# Altium integrated library Analog Devices Data Converters Digital-to-Analog Converters.IntLib: 2231 symbols (part 100 of 181)
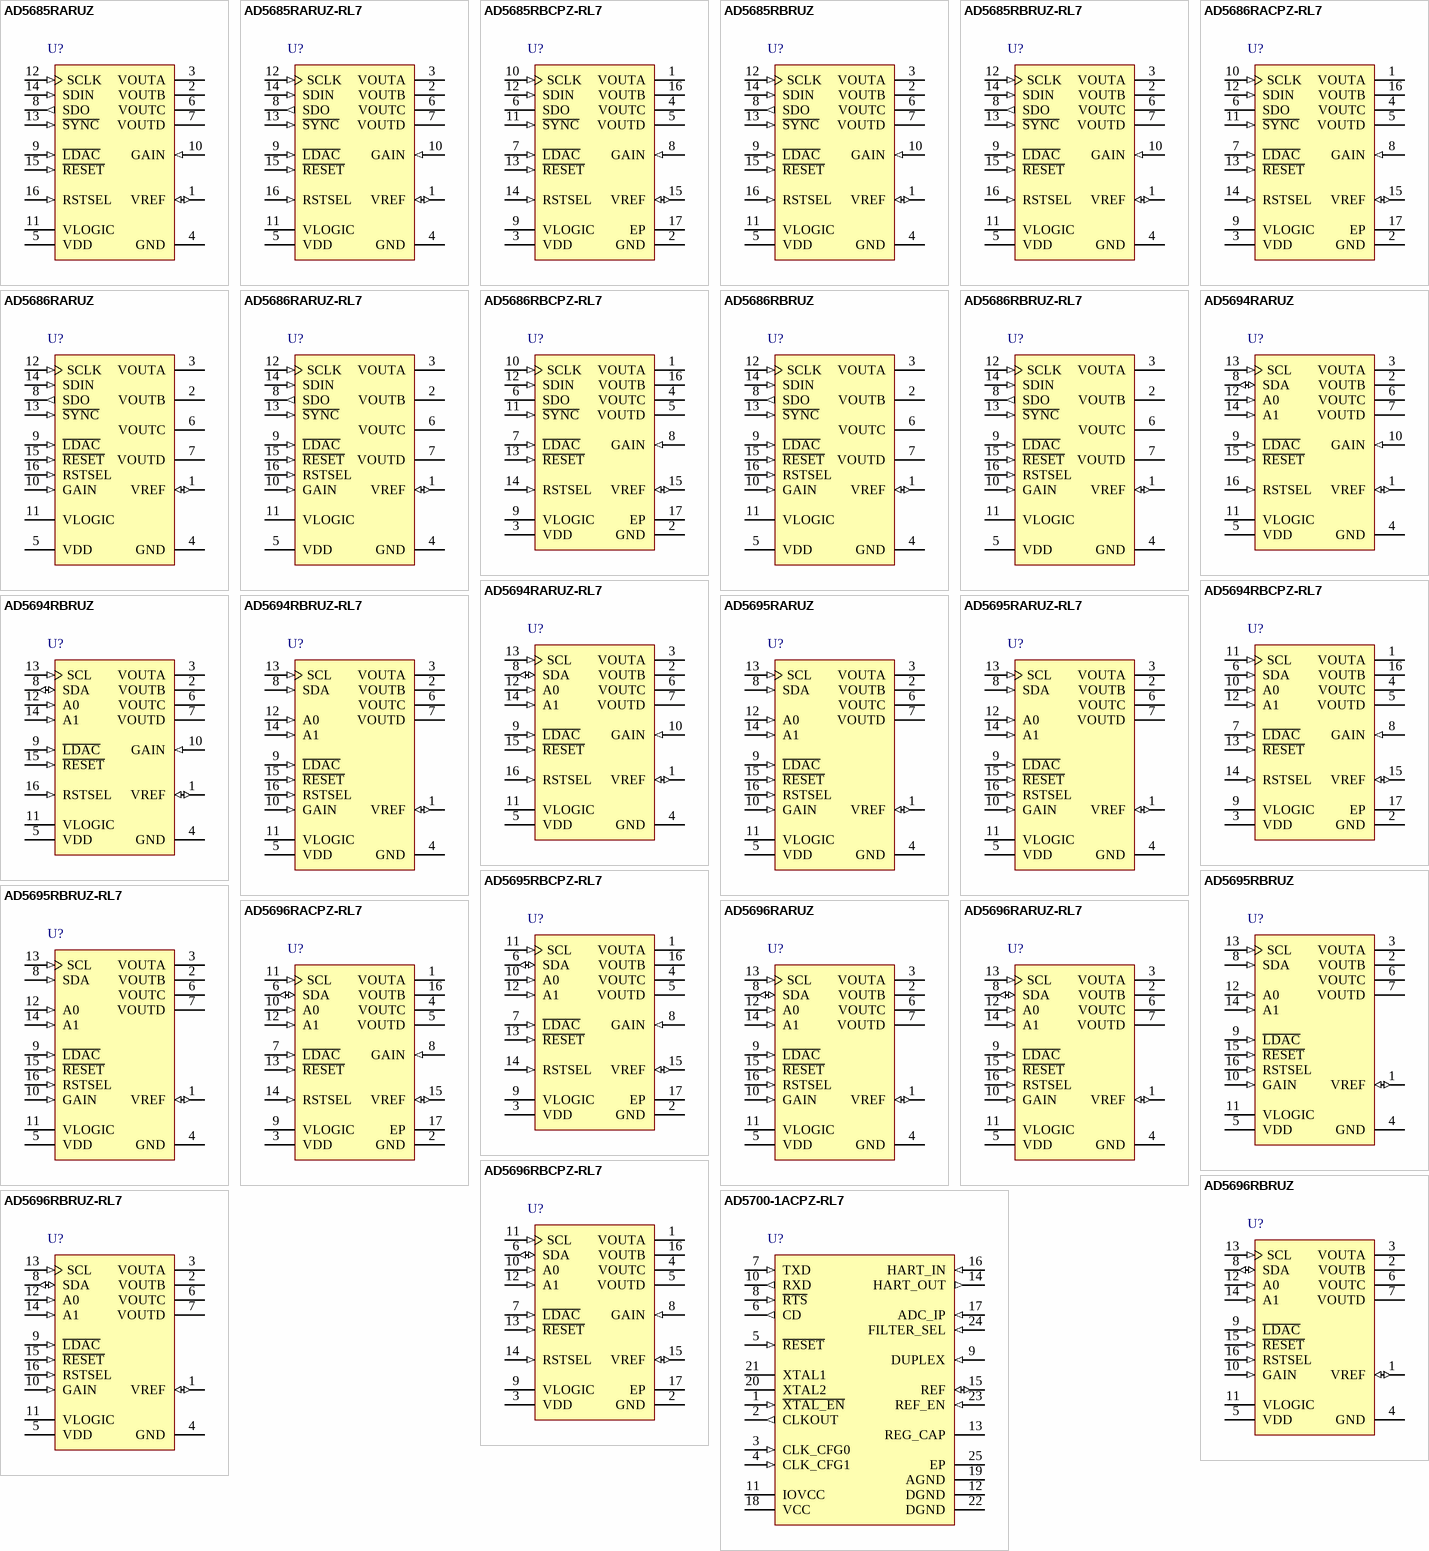
[diagram p213: symbols AD5685RARUZ to AD5700-1ACPZ-RL7]

## AD5694RBCPZ-RL7
designator U?
Quad 12-Bit nanoDAC+ with I2C Interface and 2 ppm/degC On-Chip Reference, -40 to +105 degC, CP-16-22, Pb-Free, Reel; Generic Part Number: AD5694R; Manufacturer: Analog Devices; PartNumber: AD5694RBCPZ-RL7; # DAC Outputs: 4; Max V+: 5.5V; Resolution (Bits): 12; Settling Time: 5µs; Single Supply: Yes; DatasheetVersion: Rev.0; PackageVersion: 111808-A; PackageReference: CP-16-22; PackageDescription: 16-Lead Lead Frame Chip Scale Package [LFCSP_WQ] 3 x 3 mm Body, Very Very Thin Quad; Supplier 1: Digi-Key; Supplier Part Number 1: AD5694RBCPZ-RL7TR-ND; Supplier 2: Digi-Key; Supplier Part Number 2: AD5694RBCPZ-RL7CT-ND; Supplier 3: Digi-Key; Supplier Part Number 3: AD5694RBCPZ-RL7DKR-ND; Supplier 4: Mouser; Supplier Part Number 4: 584-AD5694RBCPZ-R7; Packing: Reel; RoHS: Y; Mounting Technology: Surface Mount; Code_JEDEC: MO-220-WEED; ComponentLink1Description: Manufacturer URL; ComponentLink1URL: http://www.analog.com/en/index.html; ComponentLink2Description: Datasheet; ComponentLink2URL: http://www.analog.com/static/imported-files/data_sheets/AD5696R_AD5695R_AD5694R.pdf; ComponentLink3Description: Package Specification; ComponentLink3URL: http://www.analog.com/static/imported-files/packages/PKG_PDF/LFCSP(CP)/CP-16/CP_16_22.pdf; ComponentLink4Description: Product URL; ComponentLink4URL: http://www.analog.com/en/digital-to-analog-converters/da-converters/ad5694r/products/product.html
footprint CP-16-22_N (QFN, 16-Leads, Body 3x3mm, Pitch 0.5mm, Thermal Pad 1.75x1.75mm, IPC Medium Density)
footprint CP-16-22_L (QFN, 16-Leads, Body 3x3mm, Pitch 0.5mm, Thermal Pad 1.75x1.75mm, IPC High Density)
footprint CP-16-22_M (QFN, 16-Leads, Body 3x3mm, Pitch 0.5mm, Thermal Pad 1.75x1.75mm, IPC Low Density)
pins: 1 VOUTA (hiz) "Analog Output Voltage from DAC A. The output amplifier has rail-to-rail operation.", 2 GND (power) "Ground Reference Point for All Circuitry on the Part.", 3 VDD (power) "Power Supply Input. These parts can be operated from 2.7 V to 5.5 V, and the supply should be decoupled with a 10 uF capacitor in parallel with a 0.1 uF capacitor to GND.", 4 VOUTC (hiz) "Analog Output Voltage from DAC C. The output amplifier has rail-to-rail operation.", 5 VOUTD (hiz) "Analog Output Voltage from DAC D. The output amplifier has rail-to-rail operation.", 6 SDA (in) "Serial Data Input. This pin is used in conjunction with the SCL line to clock data into or out of the 24-bit input shift register. SDA is a bidirectional, open-drain data line that should be pulled to the supply with an (See Datasheet)", 7 ~{LDAC} (in) "L\D\A\C\ can be operated in two modes, asynchronously and synchronously. Pulsing this pin low allows any or all DAC registers to be updated if the input registers have new data. This allows all DAC outputs to simultaneously (See Datasheet)", 8 GAIN (in) "Span Set Pin. When this pin is tied to GND, all four DAC outputs have a span from 0 V to VREF. If this pin is tied to VDD, all four DACs output a span of 0 V to 2 x VREF.", 9 VLOGIC (power) "Digital Power Supply. Voltage ranges from 1.8 V to 5.5 V.", 10 A0 (in) "Address Input. Sets the first LSB of the 7-bit slave address.", 11 SCL (in) "Serial Clock Line. This is used in conjunction with the SDA line to clock data into or out of the 24-bit input register.", 12 A1 (in) "Address Input. Sets the second LSB of the 7-bit slave address.", 13 ~{RESET} (in) "Asynchronous Reset Input. The R\E\S\E\T\ input is falling edge sensitive. When R\E\S\E\T\ is low, all L\D\A\C\ pulses are ignored. When R\E\S\E\T\ is activated, the input register and the DAC register are updated with zero (See Datasheet)", 14 RSTSEL (in) "Power-On Reset Pin. Tying this pin to GND powers up all four DACs to zero scale. Tying this pin to VDD powers up all four DACs to midscale.", 15 VREF (io) "Reference Voltage. The AD5694R have a common reference pin. When using the internal reference, this is the reference output pin. When using an external reference, this is the reference input pin. The default for this pin is (See Datasheet)", 16 VOUTB (hiz) "Analog Output Voltage from DAC B. The output amplifier has rail-to-rail operation.", 17 EP (power) "Exposed Pad. The exposed pad must be tied to GND."

## AD5694RBRUZ
designator U?
Quad 12-Bit nanoDAC+ with I2C Interface and 2 ppm/degC On-Chip Reference, -40 to +105 degC, RU-16, Pb-Free, Tube; Generic Part Number: AD5694R; Manufacturer: Analog Devices; PartNumber: AD5694RBRUZ; # DAC Outputs: 4; Max V+: 5.5V; Resolution (Bits): 12; Settling Time: 5µs; Single Supply: Yes; DatasheetVersion: Rev.0; PackageVersion: Nov-2002; PackageReference: RU-16; PackageDescription: 16-Lead Thin Shrink Small Outline Package [TSSOP]; Supplier 1: Digi-Key; Supplier Part Number 1: AD5694RBRUZ-ND; Supplier 2: Farnell; Supplier Part Number 2: 2112664; Supplier 3: Newark; Supplier Part Number 3: 94T0041; Supplier 4: Mouser; Supplier Part Number 4: 584-AD5694RBRUZ; Packing: Tube; RoHS: Y; Mounting Technology: Surface Mount; Code_JEDEC: MO-153-AB; ComponentLink1Description: Manufacturer URL; ComponentLink1URL: http://www.analog.com/en/index.html; ComponentLink2Description: Datasheet; ComponentLink2URL: http://www.analog.com/static/imported-files/data_sheets/AD5696R_AD5695R_AD5694R.pdf; ComponentLink3Description: Package Specification; ComponentLink3URL: http://www.analog.com/static/imported-files/packages/36244347913743854010197452789RU16.pdf; ComponentLink4Description: Product URL; ComponentLink4URL: http://www.analog.com/en/digital-to-analog-converters/da-converters/ad5694r/products/product.html
footprint RU-16_N (TSOP, 16-Leads, Body 5x4.4mm, Pitch 0.65mm, IPC Medium Density)
footprint RU-16_L (TSOP, 16-Leads, Body 5x4.4mm, Pitch 0.65mm, IPC High Density)
footprint RU-16_M (TSOP, 16-Leads, Body 5x4.4mm, Pitch 0.65mm, IPC Low Density)
pins: 1 VREF (io) "Reference Voltage. The AD5694R have a common reference pin. When using the internal reference, this is the reference output pin. When using an external reference, this is the reference input pin. The default for this pin is (See Datasheet)", 2 VOUTB (hiz) "Analog Output Voltage from DAC B. The output amplifier has rail-to-rail operation.", 3 VOUTA (hiz) "Analog Output Voltage from DAC A. The output amplifier has rail-to-rail operation.", 4 GND (power) "Ground Reference Point for All Circuitry on the Part.", 5 VDD (power) "Power Supply Input. These parts can be operated from 2.7 V to 5.5 V, and the supply should be decoupled with a 10 uF capacitor in parallel with a 0.1 uF capacitor to GND.", 6 VOUTC (hiz) "Analog Output Voltage from DAC C. The output amplifier has rail-to-rail operation.", 7 VOUTD (hiz) "Analog Output Voltage from DAC D. The output amplifier has rail-to-rail operation.", 8 SDA (io) "Serial Data Input. This pin is used in conjunction with the SCL line to clock data into or out of the 24-bit input shift register. SDA is a bidirectional, open-drain data line that should be pulled to the supply with an (See Datasheet)", 9 ~{LDAC} (in) "L\D\A\C\ can be operated in two modes, asynchronously and synchronously. Pulsing this pin low allows any or all DAC registers to be updated if the input registers have new data. This allows all DAC outputs to simultaneously (See Datasheet)", 10 GAIN (in) "Span Set Pin. When this pin is tied to GND, all four DAC outputs have a span from 0 V to VREF. If this pin is tied to VDD, all four DACs output a span of 0 V to 2 x VREF.", 11 VLOGIC (power) "Digital Power Supply. Voltage ranges from 1.8 V to 5.5 V.", 12 A0 (in) "Address Input. Sets the first LSB of the 7-bit slave address.", 13 SCL (in) "Serial Clock Line. This is used in conjunction with the SDA line to clock data into or out of the 24-bit input register.", 14 A1 (in) "Address Input. Sets the second LSB of the 7-bit slave address.", 15 ~{RESET} (in) "Asynchronous Reset Input. The R\E\S\E\T\ input is falling edge sensitive. When R\E\S\E\T\ is low, all L\D\A\C\ pulses are ignored. When R\E\S\E\T\ is activated, the input register and the DAC register are updated with zero (See Datasheet)", 16 RSTSEL (in) "Power-On Reset Pin. Tying this pin to GND powers up all four DACs to zero scale. Tying this pin to VDD powers up all four DACs to midscale."

## AD5694RBRUZ-RL7
designator U?
Quad 12-Bit nanoDAC+ with I2C Interface and 2 ppm/degC On-Chip Reference, -40 to +105 degC, RU-16, Pb-Free, Reel; Generic Part Number: AD5694R; Manufacturer: Analog Devices; PartNumber: AD5694RBRUZ-RL7; # DAC Outputs: 4; Max V+: 5.5V; Resolution (Bits): 12; Settling Time: 5µs; Single Supply: Yes; DatasheetVersion: Rev.0; PackageVersion: Nov-2002; PackageReference: RU-16; PackageDescription: 16-Lead Thin Shrink Small Outline Package [TSSOP]; Supplier 1: Digi-Key; Supplier Part Number 1: AD5694RBRUZ-RL7-ND; Supplier 2: Mouser; Supplier Part Number 2: 584-AD5694RBRUZ-R7; Packing: Reel; RoHS: Y; Mounting Technology: Surface Mount; Code_JEDEC: MO-153-AB; ComponentLink1Description: Manufacturer URL; ComponentLink1URL: http://www.analog.com/en/index.html; ComponentLink2Description: Datasheet; ComponentLink2URL: http://www.analog.com/static/imported-files/data_sheets/AD5696R_AD5695R_AD5694R.pdf; ComponentLink3Description: Package Specification; ComponentLink3URL: http://www.analog.com/static/imported-files/packages/36244347913743854010197452789RU16.pdf; ComponentLink4Description: Product URL; ComponentLink4URL: http://www.analog.com/en/digital-to-analog-converters/da-converters/ad5694r/products/product.html
footprint RU-16_N (TSOP, 16-Leads, Body 5x4.4mm, Pitch 0.65mm, IPC Medium Density)
footprint RU-16_L (TSOP, 16-Leads, Body 5x4.4mm, Pitch 0.65mm, IPC High Density)
footprint RU-16_M (TSOP, 16-Leads, Body 5x4.4mm, Pitch 0.65mm, IPC Low Density)
pins: 1 VREF (io) "Reference Voltage. The AD5695R have a common reference pin. When using the internal reference, this is the reference output pin. When using an external reference, this is the reference input pin. The default for this pin is (See Datasheet)", 2 VOUTB (hiz) "Analog Output Voltage from DAC B. The output amplifier has rail-to-rail operation.", 3 VOUTA (hiz) "Analog Output Voltage from DAC A. The output amplifier has rail-to-rail operation.", 4 GND (power) "Ground Reference Point for All Circuitry on the Part.", 5 VDD (power) "Power Supply Input. These parts can be operated from 2.7 V to 5.5 V, and the supply should be decoupled with a 10 uF capacitor in parallel with a 0.1 uF capacitor to GND.", 6 VOUTC (hiz) "Analog Output Voltage from DAC C. The output amplifier has rail-to-rail operation.", 7 VOUTD (hiz) "Analog Output Voltage from DAC D. The output amplifier has rail-to-rail operation.", 8 SDA (in) "Serial Data Input. This pin is used in conjunction with the SCL line to clock data into or out of the 24-bit input shift register. SDA is a bidirectional, open-drain data line that should be pulled to the supply with an (See Datasheet)", 9 ~{LDAC} (in) "L\D\A\C\ can be operated in two modes, asynchronously and synchronously. Pulsing this pin low allows any or all DAC registers to be updated if the input registers have new data. This allows all DAC outputs to simultaneously (See Datasheet)", 10 GAIN (in) "Span Set Pin. When this pin is tied to GND, all four DAC outputs have a span from 0 V to VREF. If this pin is tied to VDD, all four DACs output a span of 0 V to 2 x VREF.", 11 VLOGIC (power) "Digital Power Supply. Voltage ranges from 1.8 V to 5.5 V.", 12 A0 (in) "Address Input. Sets the first LSB of the 7-bit slave address.", 13 SCL (in) "Serial Clock Line. This is used in conjunction with the SDA line to clock data into or out of the 24-bit input register.", 14 A1 (in) "Address Input. Sets the second LSB of the 7-bit slave address.", 15 ~{RESET} (in) "Asynchronous Reset Input. The R\E\S\E\T\ input is falling edge sensitive. When R\E\S\E\T\ is low, all L\D\A\C\ pulses are ignored. When R\E\S\E\T\ is activated, the input register and the DAC register are updated with zero (See Datasheet)", 16 RSTSEL (in) "Power-On Reset Pin. Tying this pin to GND powers up all four DACs to zero scale. Tying this pin to VDD powers up all four DACs to midscale."

## AD5695RARUZ
designator U?
Quad 14-Bit nanoDAC+ with I2C Interface and 2 ppm/degC On-Chip Reference, -40 to +105 degC, RU-16, Pb-Free, Tube; Generic Part Number: AD5695R; Manufacturer: Analog Devices; PartNumber: AD5695RARUZ; # DAC Outputs: 4; Max V+: 5.5V; Resolution (Bits): 14; Settling Time: 5µs; Single Supply: Yes; DatasheetVersion: Rev.0; PackageVersion: Nov-2002; PackageReference: RU-16; PackageDescription: 16-Lead Thin Shrink Small Outline Package [TSSOP]; Supplier 1: Digi-Key; Supplier Part Number 1: AD5695RARUZ-ND; Supplier 2: Farnell; Supplier Part Number 2: 2112665; Supplier 3: Newark; Supplier Part Number 3: 94T0043; Supplier 4: Mouser; Supplier Part Number 4: 584-AD5695RARUZ; Packing: Tube; RoHS: Y; Mounting Technology: Surface Mount; Code_JEDEC: MO-153-AB; ComponentLink1Description: Manufacturer URL; ComponentLink1URL: http://www.analog.com/en/index.html; ComponentLink2Description: Datasheet; ComponentLink2URL: http://www.analog.com/static/imported-files/data_sheets/AD5696R_AD5695R_AD5694R.pdf; ComponentLink3Description: Package Specification; ComponentLink3URL: http://www.analog.com/static/imported-files/packages/36244347913743854010197452789RU16.pdf; ComponentLink4Description: Product URL; ComponentLink4URL: http://www.analog.com/en/digital-to-analog-converters/da-converters/ad5695r/products/product.html
footprint RU-16_N (TSOP, 16-Leads, Body 5x4.4mm, Pitch 0.65mm, IPC Medium Density)
footprint RU-16_L (TSOP, 16-Leads, Body 5x4.4mm, Pitch 0.65mm, IPC High Density)
footprint RU-16_M (TSOP, 16-Leads, Body 5x4.4mm, Pitch 0.65mm, IPC Low Density)
pins: 1 VREF (io) "Reference Voltage. The AD5695R have a common reference pin. When using the internal reference, this is the reference output pin. When using an external reference, this is the reference input pin. The default for this pin is (See Datasheet)", 2 VOUTB (hiz) "Analog Output Voltage from DAC B. The output amplifier has rail-to-rail operation.", 3 VOUTA (hiz) "Analog Output Voltage from DAC A. The output amplifier has rail-to-rail operation.", 4 GND (power) "Ground Reference Point for All Circuitry on the Part.", 5 VDD (power) "Power Supply Input. These parts can be operated from 2.7 V to 5.5 V, and the supply should be decoupled with a 10 uF capacitor in parallel with a 0.1 uF capacitor to GND.", 6 VOUTC (hiz) "Analog Output Voltage from DAC C. The output amplifier has rail-to-rail operation.", 7 VOUTD (hiz) "Analog Output Voltage from DAC D. The output amplifier has rail-to-rail operation.", 8 SDA (in) "Serial Data Input. This pin is used in conjunction with the SCL line to clock data into or out of the 24-bit input shift register. SDA is a bidirectional, open-drain data line that should be pulled to the supply with an (See Datasheet)", 9 ~{LDAC} (in) "L\D\A\C\ can be operated in two modes, asynchronously and synchronously. Pulsing this pin low allows any or all DAC registers to be updated if the input registers have new data. This allows all DAC outputs to simultaneously (See Datasheet)", 10 GAIN (in) "Span Set Pin. When this pin is tied to GND, all four DAC outputs have a span from 0 V to VREF. If this pin is tied to VDD, all four DACs output a span of 0 V to 2 x VREF.", 11 VLOGIC (power) "Digital Power Supply. Voltage ranges from 1.8 V to 5.5 V.", 12 A0 (in) "Address Input. Sets the first LSB of the 7-bit slave address.", 13 SCL (in) "Serial Clock Line. This is used in conjunction with the SDA line to clock data into or out of the 24-bit input register.", 14 A1 (in) "Address Input. Sets the second LSB of the 7-bit slave address.", 15 ~{RESET} (in) "Asynchronous Reset Input. The R\E\S\E\T\ input is falling edge sensitive. When R\E\S\E\T\ is low, all L\D\A\C\ pulses are ignored. When R\E\S\E\T\ is activated, the input register and the DAC register are updated with zero (See Datasheet)", 16 RSTSEL (in) "Power-On Reset Pin. Tying this pin to GND powers up all four DACs to zero scale. Tying this pin to VDD powers up all four DACs to midscale."

## AD5695RARUZ-RL7
designator U?
Quad 14-Bit nanoDAC+ with I2C Interface and 2 ppm/degC On-Chip Reference, -40 to +105 degC, RU-16, Pb-Free, Reel; Generic Part Number: AD5695R; Manufacturer: Analog Devices; PartNumber: AD5695RARUZ-RL7; # DAC Outputs: 4; Max V+: 5.5V; Resolution (Bits): 14; Settling Time: 5µs; Single Supply: Yes; DatasheetVersion: Rev.0; PackageVersion: Nov-2002; PackageReference: RU-16; PackageDescription: 16-Lead Thin Shrink Small Outline Package [TSSOP]; Supplier 1: Digi-Key; Supplier Part Number 1: AD5695RARUZ-RL7-ND; Supplier 2: Mouser; Supplier Part Number 2: 584-AD5695RARUZ-R7; Packing: Reel; RoHS: Y; Mounting Technology: Surface Mount; Code_JEDEC: MO-153-AB; ComponentLink1Description: Manufacturer URL; ComponentLink1URL: http://www.analog.com/en/index.html; ComponentLink2Description: Datasheet; ComponentLink2URL: http://www.analog.com/static/imported-files/data_sheets/AD5696R_AD5695R_AD5694R.pdf; ComponentLink3Description: Package Specification; ComponentLink3URL: http://www.analog.com/static/imported-files/packages/36244347913743854010197452789RU16.pdf; ComponentLink4Description: Product URL; ComponentLink4URL: http://www.analog.com/en/digital-to-analog-converters/da-converters/ad5695r/products/product.html
footprint RU-16_N (TSOP, 16-Leads, Body 5x4.4mm, Pitch 0.65mm, IPC Medium Density)
footprint RU-16_L (TSOP, 16-Leads, Body 5x4.4mm, Pitch 0.65mm, IPC High Density)
footprint RU-16_M (TSOP, 16-Leads, Body 5x4.4mm, Pitch 0.65mm, IPC Low Density)
pins: 1 VREF (io) "Reference Voltage. The AD5695R have a common reference pin. When using the internal reference, this is the reference output pin. When using an external reference, this is the reference input pin. The default for this pin is (See Datasheet)", 2 VOUTB (hiz) "Analog Output Voltage from DAC B. The output amplifier has rail-to-rail operation.", 3 VOUTA (hiz) "Analog Output Voltage from DAC A. The output amplifier has rail-to-rail operation.", 4 GND (power) "Ground Reference Point for All Circuitry on the Part.", 5 VDD (power) "Power Supply Input. These parts can be operated from 2.7 V to 5.5 V, and the supply should be decoupled with a 10 uF capacitor in parallel with a 0.1 uF capacitor to GND.", 6 VOUTC (hiz) "Analog Output Voltage from DAC C. The output amplifier has rail-to-rail operation.", 7 VOUTD (hiz) "Analog Output Voltage from DAC D. The output amplifier has rail-to-rail operation.", 8 SDA (in) "Serial Data Input. This pin is used in conjunction with the SCL line to clock data into or out of the 24-bit input shift register. SDA is a bidirectional, open-drain data line that should be pulled to the supply with an (See Datasheet)", 9 ~{LDAC} (in) "L\D\A\C\ can be operated in two modes, asynchronously and synchronously. Pulsing this pin low allows any or all DAC registers to be updated if the input registers have new data. This allows all DAC outputs to simultaneously (See Datasheet)", 10 GAIN (in) "Span Set Pin. When this pin is tied to GND, all four DAC outputs have a span from 0 V to VREF. If this pin is tied to VDD, all four DACs output a span of 0 V to 2 x VREF.", 11 VLOGIC (power) "Digital Power Supply. Voltage ranges from 1.8 V to 5.5 V.", 12 A0 (in) "Address Input. Sets the first LSB of the 7-bit slave address.", 13 SCL (in) "Serial Clock Line. This is used in conjunction with the SDA line to clock data into or out of the 24-bit input register.", 14 A1 (in) "Address Input. Sets the second LSB of the 7-bit slave address.", 15 ~{RESET} (in) "Asynchronous Reset Input. The R\E\S\E\T\ input is falling edge sensitive. When R\E\S\E\T\ is low, all L\D\A\C\ pulses are ignored. When R\E\S\E\T\ is activated, the input register and the DAC register are updated with zero (See Datasheet)", 16 RSTSEL (in) "Power-On Reset Pin. Tying this pin to GND powers up all four DACs to zero scale. Tying this pin to VDD powers up all four DACs to midscale."

## AD5695RBCPZ-RL7
designator U?
Quad 14-Bit nanoDAC+ with I2C Interface and 2 ppm/degC On-Chip Reference, -40 to +105 degC, CP-16-22, Pb-Free, Reel; Generic Part Number: AD5695R; Manufacturer: Analog Devices; PartNumber: AD5695RBCPZ-RL7; # DAC Outputs: 4; Max V+: 5.5V; Resolution (Bits): 14; Settling Time: 5µs; Single Supply: Yes; DatasheetVersion: Rev.0; PackageVersion: 111808-A; PackageReference: CP-16-22; PackageDescription: 16-Lead Lead Frame Chip Scale Package [LFCSP_WQ] 3 x 3 mm Body, Very Very Thin Quad; Supplier 1: Digi-Key; Supplier Part Number 1: AD5695RBCPZ-RL7TR-ND; Supplier 2: Digi-Key; Supplier Part Number 2: AD5695RBCPZ-RL7CT-ND; Supplier 3: Digi-Key; Supplier Part Number 3: AD5695RBCPZ-RL7DKR-ND; Supplier 4: Mouser; Supplier Part Number 4: 584-AD5695RBCPZ-R7; Packing: Reel; RoHS: Y; Mounting Technology: Surface Mount; Code_JEDEC: MO-220-WEED; ComponentLink1Description: Manufacturer URL; ComponentLink1URL: http://www.analog.com/en/index.html; ComponentLink2Description: Datasheet; ComponentLink2URL: http://www.analog.com/static/imported-files/data_sheets/AD5696R_AD5695R_AD5694R.pdf; ComponentLink3Description: Package Specification; ComponentLink3URL: http://www.analog.com/static/imported-files/packages/PKG_PDF/LFCSP(CP)/CP-16/CP_16_22.pdf; ComponentLink4Description: Product URL; ComponentLink4URL: http://www.analog.com/en/digital-to-analog-converters/da-converters/ad5695r/products/product.html
footprint CP-16-22_N (QFN, 16-Leads, Body 3x3mm, Pitch 0.5mm, Thermal Pad 1.75x1.75mm, IPC Medium Density)
footprint CP-16-22_L (QFN, 16-Leads, Body 3x3mm, Pitch 0.5mm, Thermal Pad 1.75x1.75mm, IPC High Density)
footprint CP-16-22_M (QFN, 16-Leads, Body 3x3mm, Pitch 0.5mm, Thermal Pad 1.75x1.75mm, IPC Low Density)
pins: 1 VOUTA (hiz) "Analog Output Voltage from DAC A. The output amplifier has rail-to-rail operation.", 2 GND (power) "Ground Reference Point for All Circuitry on the Part.", 3 VDD (power) "Power Supply Input. These parts can be operated from 2.7 V to 5.5 V, and the supply should be decoupled with a 10 uF capacitor in parallel with a 0.1 uF capacitor to GND.", 4 VOUTC (hiz) "Analog Output Voltage from DAC C. The output amplifier has rail-to-rail operation.", 5 VOUTD (hiz) "Analog Output Voltage from DAC D. The output amplifier has rail-to-rail operation.", 6 SDA (io) "Serial Data Input. This pin is used in conjunction with the SCL line to clock data into or out of the 24-bit input shift register. SDA is a bidirectional, open-drain data line that should be pulled to the supply with an (See Datasheet)", 7 ~{LDAC} (in) "L\D\A\C\ can be operated in two modes, asynchronously and synchronously. Pulsing this pin low allows any or all DAC registers to be updated if the input registers have new data. This allows all DAC outputs to simultaneously (See Datasheet)", 8 GAIN (in) "Span Set Pin. When this pin is tied to GND, all four DAC outputs have a span from 0 V to VREF. If this pin is tied to VDD, all four DACs output a span of 0 V to 2 x VREF.", 9 VLOGIC (power) "Digital Power Supply. Voltage ranges from 1.8 V to 5.5 V.", 10 A0 (in) "Address Input. Sets the first LSB of the 7-bit slave address.", 11 SCL (in) "Serial Clock Line. This is used in conjunction with the SDA line to clock data into or out of the 24-bit input register.", 12 A1 (in) "Address Input. Sets the second LSB of the 7-bit slave address.", 13 ~{RESET} (in) "Asynchronous Reset Input. The R\E\S\E\T\ input is falling edge sensitive. When R\E\S\E\T\ is low, all L\D\A\C\ pulses are ignored. When R\E\S\E\T\ is activated, the input register and the DAC register are updated with zero (See Datasheet)", 14 RSTSEL (in) "Power-On Reset Pin. Tying this pin to GND powers up all four DACs to zero scale. Tying this pin to VDD powers up all four DACs to midscale.", 15 VREF (io) "Reference Voltage. The AD5695R have a common reference pin. When using the internal reference, this is the reference output pin. When using an external reference, this is the reference input pin. The default for this pin is (See Datasheet)", 16 VOUTB (hiz) "Analog Output Voltage from DAC B. The output amplifier has rail-to-rail operation.", 17 EP (power) "Exposed Pad. The exposed pad must be tied to GND."

## AD5695RBRUZ
designator U?
Quad 14-Bit nanoDAC+ with I2C Interface and 2 ppm/degC On-Chip Reference, -40 to +105 degC, RU-16, Pb-Free, Tube; Generic Part Number: AD5695R; Manufacturer: Analog Devices; PartNumber: AD5695RBRUZ; # DAC Outputs: 4; Max V+: 5.5V; Resolution (Bits): 14; Settling Time: 5µs; Single Supply: Yes; DatasheetVersion: Rev.0; PackageVersion: Nov-2002; PackageReference: RU-16; PackageDescription: 16-Lead Thin Shrink Small Outline Package [TSSOP]; Supplier 1: Digi-Key; Supplier Part Number 1: AD5695RBRUZ-ND; Supplier 2: Farnell; Supplier Part Number 2: 2112666; Supplier 3: Newark; Supplier Part Number 3: 94T0046; Supplier 4: Mouser; Supplier Part Number 4: 584-AD5695RBRUZ; Packing: Tube; RoHS: Y; Mounting Technology: Surface Mount; Code_JEDEC: MO-153-AB; ComponentLink1Description: Manufacturer URL; ComponentLink1URL: http://www.analog.com/en/index.html; ComponentLink2Description: Datasheet; ComponentLink2URL: http://www.analog.com/static/imported-files/data_sheets/AD5696R_AD5695R_AD5694R.pdf; ComponentLink3Description: Package Specification; ComponentLink3URL: http://www.analog.com/static/imported-files/packages/36244347913743854010197452789RU16.pdf; ComponentLink4Description: Product URL; ComponentLink4URL: http://www.analog.com/en/digital-to-analog-converters/da-converters/ad5695r/products/product.html
footprint RU-16_N (TSOP, 16-Leads, Body 5x4.4mm, Pitch 0.65mm, IPC Medium Density)
footprint RU-16_L (TSOP, 16-Leads, Body 5x4.4mm, Pitch 0.65mm, IPC High Density)
footprint RU-16_M (TSOP, 16-Leads, Body 5x4.4mm, Pitch 0.65mm, IPC Low Density)
pins: 1 VREF (io) "Reference Voltage. The AD5695R have a common reference pin. When using the internal reference, this is the reference output pin. When using an external reference, this is the reference input pin. The default for this pin is (See Datasheet)", 2 VOUTB (hiz) "Analog Output Voltage from DAC B. The output amplifier has rail-to-rail operation.", 3 VOUTA (hiz) "Analog Output Voltage from DAC A. The output amplifier has rail-to-rail operation.", 4 GND (power) "Ground Reference Point for All Circuitry on the Part.", 5 VDD (power) "Power Supply Input. These parts can be operated from 2.7 V to 5.5 V, and the supply should be decoupled with a 10 uF capacitor in parallel with a 0.1 uF capacitor to GND.", 6 VOUTC (hiz) "Analog Output Voltage from DAC C. The output amplifier has rail-to-rail operation.", 7 VOUTD (hiz) "Analog Output Voltage from DAC D. The output amplifier has rail-to-rail operation.", 8 SDA (in) "Serial Data Input. This pin is used in conjunction with the SCL line to clock data into or out of the 24-bit input shift register. SDA is a bidirectional, open-drain data line that should be pulled to the supply with an (See Datasheet)", 9 ~{LDAC} (in) "L\D\A\C\ can be operated in two modes, asynchronously and synchronously. Pulsing this pin low allows any or all DAC registers to be updated if the input registers have new data. This allows all DAC outputs to simultaneously (See Datasheet)", 10 GAIN (in) "Span Set Pin. When this pin is tied to GND, all four DAC outputs have a span from 0 V to VREF. If this pin is tied to VDD, all four DACs output a span of 0 V to 2 x VREF.", 11 VLOGIC (power) "Digital Power Supply. Voltage ranges from 1.8 V to 5.5 V.", 12 A0 (in) "Address Input. Sets the first LSB of the 7-bit slave address.", 13 SCL (in) "Serial Clock Line. This is used in conjunction with the SDA line to clock data into or out of the 24-bit input register.", 14 A1 (in) "Address Input. Sets the second LSB of the 7-bit slave address.", 15 ~{RESET} (in) "Asynchronous Reset Input. The R\E\S\E\T\ input is falling edge sensitive. When R\E\S\E\T\ is low, all L\D\A\C\ pulses are ignored. When R\E\S\E\T\ is activated, the input register and the DAC register are updated with zero (See Datasheet)", 16 RSTSEL (in) "Power-On Reset Pin. Tying this pin to GND powers up all four DACs to zero scale. Tying this pin to VDD powers up all four DACs to midscale."

## AD5695RBRUZ-RL7
designator U?
Quad 14-Bit nanoDAC+ with I2C Interface and 2 ppm/degC On-Chip Reference, -40 to +105 degC, RU-16, Pb-Free, Reel; Generic Part Number: AD5695R; Manufacturer: Analog Devices; PartNumber: AD5695RBRUZ-RL7; # DAC Outputs: 4; Max V+: 5.5V; Resolution (Bits): 14; Settling Time: 5µs; Single Supply: Yes; DatasheetVersion: Rev.0; PackageVersion: Nov-2002; PackageReference: RU-16; PackageDescription: 16-Lead Thin Shrink Small Outline Package [TSSOP]; Supplier 1: Digi-Key; Supplier Part Number 1: AD5695RBRUZ-RL7-ND; Supplier 2: Mouser; Supplier Part Number 2: 584-AD5695RBRUZ-R7; Packing: Reel; RoHS: Y; Mounting Technology: Surface Mount; Code_JEDEC: MO-153-AB; ComponentLink1Description: Manufacturer URL; ComponentLink1URL: http://www.analog.com/en/index.html; ComponentLink2Description: Datasheet; ComponentLink2URL: http://www.analog.com/static/imported-files/data_sheets/AD5696R_AD5695R_AD5694R.pdf; ComponentLink3Description: Package Specification; ComponentLink3URL: http://www.analog.com/static/imported-files/packages/36244347913743854010197452789RU16.pdf; ComponentLink4Description: Product URL; ComponentLink4URL: http://www.analog.com/en/digital-to-analog-converters/da-converters/ad5695r/products/product.html
footprint RU-16_N (TSOP, 16-Leads, Body 5x4.4mm, Pitch 0.65mm, IPC Medium Density)
footprint RU-16_L (TSOP, 16-Leads, Body 5x4.4mm, Pitch 0.65mm, IPC High Density)
footprint RU-16_M (TSOP, 16-Leads, Body 5x4.4mm, Pitch 0.65mm, IPC Low Density)
pins: 1 VREF (io) "Reference Voltage. The AD5695R have a common reference pin. When using the internal reference, this is the reference output pin. When using an external reference, this is the reference input pin. The default for this pin is (See Datasheet)", 2 VOUTB (hiz) "Analog Output Voltage from DAC B. The output amplifier has rail-to-rail operation.", 3 VOUTA (hiz) "Analog Output Voltage from DAC A. The output amplifier has rail-to-rail operation.", 4 GND (power) "Ground Reference Point for All Circuitry on the Part.", 5 VDD (power) "Power Supply Input. These parts can be operated from 2.7 V to 5.5 V, and the supply should be decoupled with a 10 uF capacitor in parallel with a 0.1 uF capacitor to GND.", 6 VOUTC (hiz) "Analog Output Voltage from DAC C. The output amplifier has rail-to-rail operation.", 7 VOUTD (hiz) "Analog Output Voltage from DAC D. The output amplifier has rail-to-rail operation.", 8 SDA (in) "Serial Data Input. This pin is used in conjunction with the SCL line to clock data into or out of the 24-bit input shift register. SDA is a bidirectional, open-drain data line that should be pulled to the supply with an (See Datasheet)", 9 ~{LDAC} (in) "L\D\A\C\ can be operated in two modes, asynchronously and synchronously. Pulsing this pin low allows any or all DAC registers to be updated if the input registers have new data. This allows all DAC outputs to simultaneously (See Datasheet)", 10 GAIN (in) "Span Set Pin. When this pin is tied to GND, all four DAC outputs have a span from 0 V to VREF. If this pin is tied to VDD, all four DACs output a span of 0 V to 2 x VREF.", 11 VLOGIC (power) "Digital Power Supply. Voltage ranges from 1.8 V to 5.5 V.", 12 A0 (in) "Address Input. Sets the first LSB of the 7-bit slave address.", 13 SCL (in) "Serial Clock Line. This is used in conjunction with the SDA line to clock data into or out of the 24-bit input register.", 14 A1 (in) "Address Input. Sets the second LSB of the 7-bit slave address.", 15 ~{RESET} (in) "Asynchronous Reset Input. The R\E\S\E\T\ input is falling edge sensitive. When R\E\S\E\T\ is low, all L\D\A\C\ pulses are ignored. When R\E\S\E\T\ is activated, the input register and the DAC register are updated with zero (See Datasheet)", 16 RSTSEL (in) "Power-On Reset Pin. Tying this pin to GND powers up all four DACs to zero scale. Tying this pin to VDD powers up all four DACs to midscale."

## AD5696RACPZ-RL7
designator U?
Quad 16-Bit nanoDAC+ with I2C Interface and 2 ppm/degC On-Chip Reference, -40 to +105 degC, CP-16-22, Pb-Free, Reel; Generic Part Number: AD5696R; Manufacturer: Analog Devices; PartNumber: AD5696RACPZ-RL7; # DAC Outputs: 4; Max V+: 5.5V; Resolution (Bits): 16; Settling Time: 5µs; Single Supply: Yes; DatasheetVersion: Rev.0; PackageVersion: 111808-A; PackageReference: CP-16-22; PackageDescription: 16-Lead Lead Frame Chip Scale Package [LFCSP_WQ] 3 x 3 mm Body, Very Very Thin Quad; Supplier 1: Digi-Key; Supplier Part Number 1: AD5696RACPZ-RL7TR-ND; Supplier 2: Digi-Key; Supplier Part Number 2: AD5696RACPZ-RL7CT-ND; Supplier 3: Digi-Key; Supplier Part Number 3: AD5696RACPZ-RL7DKR-ND; Supplier 4: Mouser; Supplier Part Number 4: 584-AD5696RACPZ-R7; Packing: Reel; RoHS: Y; Mounting Technology: Surface Mount; Code_JEDEC: MO-220-WEED; ComponentLink1Description: Manufacturer URL; ComponentLink1URL: http://www.analog.com/en/index.html; ComponentLink2Description: Datasheet; ComponentLink2URL: http://www.analog.com/static/imported-files/data_sheets/AD5696R_AD5695R_AD5694R.pdf; ComponentLink3Description: Package Specification; ComponentLink3URL: http://www.analog.com/static/imported-files/packages/PKG_PDF/LFCSP(CP)/CP-16/CP_16_22.pdf; ComponentLink4Description: Product URL; ComponentLink4URL: http://www.analog.com/en/digital-to-analog-converters/da-converters/ad5696r/products/product.html
footprint CP-16-22_N (QFN, 16-Leads, Body 3x3mm, Pitch 0.5mm, Thermal Pad 1.75x1.75mm, IPC Medium Density)
footprint CP-16-22_L (QFN, 16-Leads, Body 3x3mm, Pitch 0.5mm, Thermal Pad 1.75x1.75mm, IPC High Density)
footprint CP-16-22_M (QFN, 16-Leads, Body 3x3mm, Pitch 0.5mm, Thermal Pad 1.75x1.75mm, IPC Low Density)
pins: 1 VOUTA (hiz) "Analog Output Voltage from DAC A. The output amplifier has rail-to-rail operation.", 2 GND (power) "Ground Reference Point for All Circuitry on the Part.", 3 VDD (power) "Power Supply Input. These parts can be operated from 2.7 V to 5.5 V, and the supply should be decoupled with a 10 uF capacitor in parallel with a 0.1 uF capacitor to GND.", 4 VOUTC (hiz) "Analog Output Voltage from DAC C. The output amplifier has rail-to-rail operation.", 5 VOUTD (hiz) "Analog Output Voltage from DAC D. The output amplifier has rail-to-rail operation.", 6 SDA (io) "Serial Data Input. This pin is used in conjunction with the SCL line to clock data into or out of the 24-bit input shift register. SDA is a bidirectional, open-drain data line that should be pulled to the supply with an (See Datasheet)", 7 ~{LDAC} (in) "L\D\A\C\ can be operated in two modes, asynchronously and synchronously. Pulsing this pin low allows any or all DAC registers to be updated if the input registers have new data. This allows all DAC outputs to simultaneously (See Datasheet)", 8 GAIN (in) "Span Set Pin. When this pin is tied to GND, all four DAC outputs have a span from 0 V to VREF. If this pin is tied to VDD, all four DACs output a span of 0 V to 2 x VREF.", 9 VLOGIC (power) "Digital Power Supply. Voltage ranges from 1.8 V to 5.5 V.", 10 A0 (in) "Address Input. Sets the first LSB of the 7-bit slave address.", 11 SCL (in) "Serial Clock Line. This is used in conjunction with the SDA line to clock data into or out of the 24-bit input register.", 12 A1 (in) "Address Input. Sets the second LSB of the 7-bit slave address.", 13 ~{RESET} (in) "Asynchronous Reset Input. The R\E\S\E\T\ input is falling edge sensitive. When R\E\S\E\T\ is low, all L\D\A\C\ pulses are ignored. When R\E\S\E\T\ is activated, the input register and the DAC register are updated with zero (See Datasheet)", 14 RSTSEL (in) "Power-On Reset Pin. Tying this pin to GND powers up all four DACs to zero scale. Tying this pin to VDD powers up all four DACs to midscale.", 15 VREF (io) "Reference Voltage. The AD5696R have a common reference pin. When using the internal reference, this is the reference output pin. When using an external reference, this is the reference input pin. The default for this pin is (See Datasheet)", 16 VOUTB (hiz) "Analog Output Voltage from DAC B. The output amplifier has rail-to-rail operation.", 17 EP (power) "Exposed Pad. The exposed pad must be tied to GND."

## AD5696RARUZ
designator U?
Quad 16-Bit nanoDAC+ with I2C Interface and 2 ppm/degC On-Chip Reference, -40 to +105 degC, RU-16, Pb-Free, Tube; Generic Part Number: AD5696R; Manufacturer: Analog Devices; PartNumber: AD5696RARUZ; # DAC Outputs: 4; Max V+: 5.5V; Resolution (Bits): 16; Settling Time: 5µs; Single Supply: Yes; DatasheetVersion: Rev.0; PackageVersion: Nov-2002; PackageReference: RU-16; PackageDescription: 16-Lead Thin Shrink Small Outline Package [TSSOP]; Supplier 1: Digi-Key; Supplier Part Number 1: AD5696RARUZ-ND; Supplier 2: Farnell; Supplier Part Number 2: 2112667; Supplier 3: Newark; Supplier Part Number 3: 94T0049; Supplier 4: Mouser; Supplier Part Number 4: 584-AD5696RARUZ; Packing: Tube; RoHS: Y; Mounting Technology: Surface Mount; Code_JEDEC: MO-153-AB; ComponentLink1Description: Manufacturer URL; ComponentLink1URL: http://www.analog.com/en/index.html; ComponentLink2Description: Datasheet; ComponentLink2URL: http://www.analog.com/static/imported-files/data_sheets/AD5696R_AD5695R_AD5694R.pdf; ComponentLink3Description: Package Specification; ComponentLink3URL: http://www.analog.com/static/imported-files/packages/36244347913743854010197452789RU16.pdf; ComponentLink4Description: Product URL; ComponentLink4URL: http://www.analog.com/en/digital-to-analog-converters/da-converters/ad5696r/products/product.html
footprint RU-16_N (TSOP, 16-Leads, Body 5x4.4mm, Pitch 0.65mm, IPC Medium Density)
footprint RU-16_L (TSOP, 16-Leads, Body 5x4.4mm, Pitch 0.65mm, IPC High Density)
footprint RU-16_M (TSOP, 16-Leads, Body 5x4.4mm, Pitch 0.65mm, IPC Low Density)
pins: 1 VREF (io) "Reference Voltage. The AD5696R have a common reference pin. When using the internal reference, this is the reference output pin. When using an external reference, this is the reference input pin. The default for this pin is (See Datasheet)", 2 VOUTB (hiz) "Analog Output Voltage from DAC B. The output amplifier has rail-to-rail operation.", 3 VOUTA (hiz) "Analog Output Voltage from DAC A. The output amplifier has rail-to-rail operation.", 4 GND (power) "Ground Reference Point for All Circuitry on the Part.", 5 VDD (power) "Power Supply Input. These parts can be operated from 2.7 V to 5.5 V, and the supply should be decoupled with a 10 uF capacitor in parallel with a 0.1 uF capacitor to GND.", 6 VOUTC (hiz) "Analog Output Voltage from DAC C. The output amplifier has rail-to-rail operation.", 7 VOUTD (hiz) "Analog Output Voltage from DAC D. The output amplifier has rail-to-rail operation.", 8 SDA (io) "Serial Data Input. This pin is used in conjunction with the SCL line to clock data into or out of the 24-bit input shift register. SDA is a bidirectional, open-drain data line that should be pulled to the supply with an (See Datasheet)", 9 ~{LDAC} (in) "L\D\A\C\ can be operated in two modes, asynchronously and synchronously. Pulsing this pin low allows any or all DAC registers to be updated if the input registers have new data. This allows all DAC outputs to simultaneously (See Datasheet)", 10 GAIN (in) "Span Set Pin. When this pin is tied to GND, all four DAC outputs have a span from 0 V to VREF. If this pin is tied to VDD, all four DACs output a span of 0 V to 2 x VREF.", 11 VLOGIC (power) "Digital Power Supply. Voltage ranges from 1.8 V to 5.5 V.", 12 A0 (in) "Address Input. Sets the first LSB of the 7-bit slave address.", 13 SCL (in) "Serial Clock Line. This is used in conjunction with the SDA line to clock data into or out of the 24-bit input register.", 14 A1 (in) "Address Input. Sets the second LSB of the 7-bit slave address.", 15 ~{RESET} (in) "Asynchronous Reset Input. The R\E\S\E\T\ input is falling edge sensitive. When R\E\S\E\T\ is low, all L\D\A\C\ pulses are ignored. When R\E\S\E\T\ is activated, the input register and the DAC register are updated with zero (See Datasheet)", 16 RSTSEL (in) "Power-On Reset Pin. Tying this pin to GND powers up all four DACs to zero scale. Tying this pin to VDD powers up all four DACs to midscale."

## AD5696RARUZ-RL7
designator U?
Quad 16-Bit nanoDAC+ with I2C Interface and 2 ppm/degC On-Chip Reference, -40 to +105 degC, RU-16, Pb-Free, Reel; Generic Part Number: AD5696R; Manufacturer: Analog Devices; PartNumber: AD5696RARUZ-RL7; # DAC Outputs: 4; Max V+: 5.5V; Resolution (Bits): 16; Settling Time: 5µs; Single Supply: Yes; DatasheetVersion: Rev.0; PackageVersion: Nov-2002; PackageReference: RU-16; PackageDescription: 16-Lead Thin Shrink Small Outline Package [TSSOP]; Supplier 1: Digi-Key; Supplier Part Number 1: AD5696RARUZ-RL7-ND; Supplier 2: Mouser; Supplier Part Number 2: 584-AD5696RARUZ-R7; Packing: Reel; RoHS: Y; Mounting Technology: Surface Mount; Code_JEDEC: MO-153-AB; ComponentLink1Description: Manufacturer URL; ComponentLink1URL: http://www.analog.com/en/index.html; ComponentLink2Description: Datasheet; ComponentLink2URL: http://www.analog.com/static/imported-files/data_sheets/AD5696R_AD5695R_AD5694R.pdf; ComponentLink3Description: Package Specification; ComponentLink3URL: http://www.analog.com/static/imported-files/packages/36244347913743854010197452789RU16.pdf; ComponentLink4Description: Product URL; ComponentLink4URL: http://www.analog.com/en/digital-to-analog-converters/da-converters/ad5696r/products/product.html
footprint RU-16_N (TSOP, 16-Leads, Body 5x4.4mm, Pitch 0.65mm, IPC Medium Density)
footprint RU-16_L (TSOP, 16-Leads, Body 5x4.4mm, Pitch 0.65mm, IPC High Density)
footprint RU-16_M (TSOP, 16-Leads, Body 5x4.4mm, Pitch 0.65mm, IPC Low Density)
pins: 1 VREF (io) "Reference Voltage. The AD5696R have a common reference pin. When using the internal reference, this is the reference output pin. When using an external reference, this is the reference input pin. The default for this pin is (See Datasheet)", 2 VOUTB (hiz) "Analog Output Voltage from DAC B. The output amplifier has rail-to-rail operation.", 3 VOUTA (hiz) "Analog Output Voltage from DAC A. The output amplifier has rail-to-rail operation.", 4 GND (power) "Ground Reference Point for All Circuitry on the Part.", 5 VDD (power) "Power Supply Input. These parts can be operated from 2.7 V to 5.5 V, and the supply should be decoupled with a 10 uF capacitor in parallel with a 0.1 uF capacitor to GND.", 6 VOUTC (hiz) "Analog Output Voltage from DAC C. The output amplifier has rail-to-rail operation.", 7 VOUTD (hiz) "Analog Output Voltage from DAC D. The output amplifier has rail-to-rail operation.", 8 SDA (io) "Serial Data Input. This pin is used in conjunction with the SCL line to clock data into or out of the 24-bit input shift register. SDA is a bidirectional, open-drain data line that should be pulled to the supply with an (See Datasheet)", 9 ~{LDAC} (in) "L\D\A\C\ can be operated in two modes, asynchronously and synchronously. Pulsing this pin low allows any or all DAC registers to be updated if the input registers have new data. This allows all DAC outputs to simultaneously (See Datasheet)", 10 GAIN (in) "Span Set Pin. When this pin is tied to GND, all four DAC outputs have a span from 0 V to VREF. If this pin is tied to VDD, all four DACs output a span of 0 V to 2 x VREF.", 11 VLOGIC (power) "Digital Power Supply. Voltage ranges from 1.8 V to 5.5 V.", 12 A0 (in) "Address Input. Sets the first LSB of the 7-bit slave address.", 13 SCL (in) "Serial Clock Line. This is used in conjunction with the SDA line to clock data into or out of the 24-bit input register.", 14 A1 (in) "Address Input. Sets the second LSB of the 7-bit slave address.", 15 ~{RESET} (in) "Asynchronous Reset Input. The R\E\S\E\T\ input is falling edge sensitive. When R\E\S\E\T\ is low, all L\D\A\C\ pulses are ignored. When R\E\S\E\T\ is activated, the input register and the DAC register are updated with zero (See Datasheet)", 16 RSTSEL (in) "Power-On Reset Pin. Tying this pin to GND powers up all four DACs to zero scale. Tying this pin to VDD powers up all four DACs to midscale."

## AD5696RBCPZ-RL7
designator U?
Quad 16-Bit nanoDAC+ with I2C Interface and 2 ppm/degC On-Chip Reference, -40 to +105 degC, CP-16-22, Pb-Free, Reel; Generic Part Number: AD5696R; Manufacturer: Analog Devices; PartNumber: AD5696RBCPZ-RL7; # DAC Outputs: 4; Max V+: 5.5V; Resolution (Bits): 16; Settling Time: 5µs; Single Supply: Yes; DatasheetVersion: Rev.0; PackageVersion: 111808-A; PackageReference: CP-16-22; PackageDescription: 16-Lead Lead Frame Chip Scale Package [LFCSP_WQ] 3 x 3 mm Body, Very Very Thin Quad; Supplier 1: Digi-Key; Supplier Part Number 1: AD5696RBCPZ-RL7TR-ND; Supplier 2: Digi-Key; Supplier Part Number 2: AD5696RBCPZ-RL7CT-ND; Supplier 3: Digi-Key; Supplier Part Number 3: AD5696RBCPZ-RL7DKR-ND; Supplier 4: Mouser; Supplier Part Number 4: 584-AD5696RBCPZ-R7; Packing: Reel; RoHS: Y; Mounting Technology: Surface Mount; Code_JEDEC: MO-220-WEED; ComponentLink1Description: Manufacturer URL; ComponentLink1URL: http://www.analog.com/en/index.html; ComponentLink2Description: Datasheet; ComponentLink2URL: http://www.analog.com/static/imported-files/data_sheets/AD5696R_AD5695R_AD5694R.pdf; ComponentLink3Description: Package Specification; ComponentLink3URL: http://www.analog.com/static/imported-files/packages/PKG_PDF/LFCSP(CP)/CP-16/CP_16_22.pdf; ComponentLink4Description: Product URL; ComponentLink4URL: http://www.analog.com/en/digital-to-analog-converters/da-converters/ad5696r/products/product.html
footprint CP-16-22_N (QFN, 16-Leads, Body 3x3mm, Pitch 0.5mm, Thermal Pad 1.75x1.75mm, IPC Medium Density)
footprint CP-16-22_L (QFN, 16-Leads, Body 3x3mm, Pitch 0.5mm, Thermal Pad 1.75x1.75mm, IPC High Density)
footprint CP-16-22_M (QFN, 16-Leads, Body 3x3mm, Pitch 0.5mm, Thermal Pad 1.75x1.75mm, IPC Low Density)
pins: 1 VOUTA (hiz) "Analog Output Voltage from DAC A. The output amplifier has rail-to-rail operation.", 2 GND (power) "Ground Reference Point for All Circuitry on the Part.", 3 VDD (power) "Power Supply Input. These parts can be operated from 2.7 V to 5.5 V, and the supply should be decoupled with a 10 uF capacitor in parallel with a 0.1 uF capacitor to GND.", 4 VOUTC (hiz) "Analog Output Voltage from DAC C. The output amplifier has rail-to-rail operation.", 5 VOUTD (hiz) "Analog Output Voltage from DAC D. The output amplifier has rail-to-rail operation.", 6 SDA (io) "Serial Data Input. This pin is used in conjunction with the SCL line to clock data into or out of the 24-bit input shift register. SDA is a bidirectional, open-drain data line that should be pulled to the supply with an (See Datasheet)", 7 ~{LDAC} (in) "L\D\A\C\ can be operated in two modes, asynchronously and synchronously. Pulsing this pin low allows any or all DAC registers to be updated if the input registers have new data. This allows all DAC outputs to simultaneously (See Datasheet)", 8 GAIN (in) "Span Set Pin. When this pin is tied to GND, all four DAC outputs have a span from 0 V to VREF. If this pin is tied to VDD, all four DACs output a span of 0 V to 2 x VREF.", 9 VLOGIC (power) "Digital Power Supply. Voltage ranges from 1.8 V to 5.5 V.", 10 A0 (in) "Address Input. Sets the first LSB of the 7-bit slave address.", 11 SCL (in) "Serial Clock Line. This is used in conjunction with the SDA line to clock data into or out of the 24-bit input register.", 12 A1 (in) "Address Input. Sets the second LSB of the 7-bit slave address.", 13 ~{RESET} (in) "Asynchronous Reset Input. The R\E\S\E\T\ input is falling edge sensitive. When R\E\S\E\T\ is low, all L\D\A\C\ pulses are ignored. When R\E\S\E\T\ is activated, the input register and the DAC register are updated with zero (See Datasheet)", 14 RSTSEL (in) "Power-On Reset Pin. Tying this pin to GND powers up all four DACs to zero scale. Tying this pin to VDD powers up all four DACs to midscale.", 15 VREF (io) "Reference Voltage. The AD5696R have a common reference pin. When using the internal reference, this is the reference output pin. When using an external reference, this is the reference input pin. The default for this pin is (See Datasheet)", 16 VOUTB (hiz) "Analog Output Voltage from DAC B. The output amplifier has rail-to-rail operation.", 17 EP (power) "Exposed Pad. The exposed pad must be tied to GND."